# Altium footprint library DIODES PTH.PcbLib: 160 footprints (part 3 of 10)
Each footprint in its own frame and in the unit in brackets; x right, y up, seen from the top. Pads: shape width x height; smd on the part's side, far side on the other; paste and mask are expansions set on the pad; w line width, h text height; cw(c..) or ccw(c..) is an arc to the next point about the centre after c.
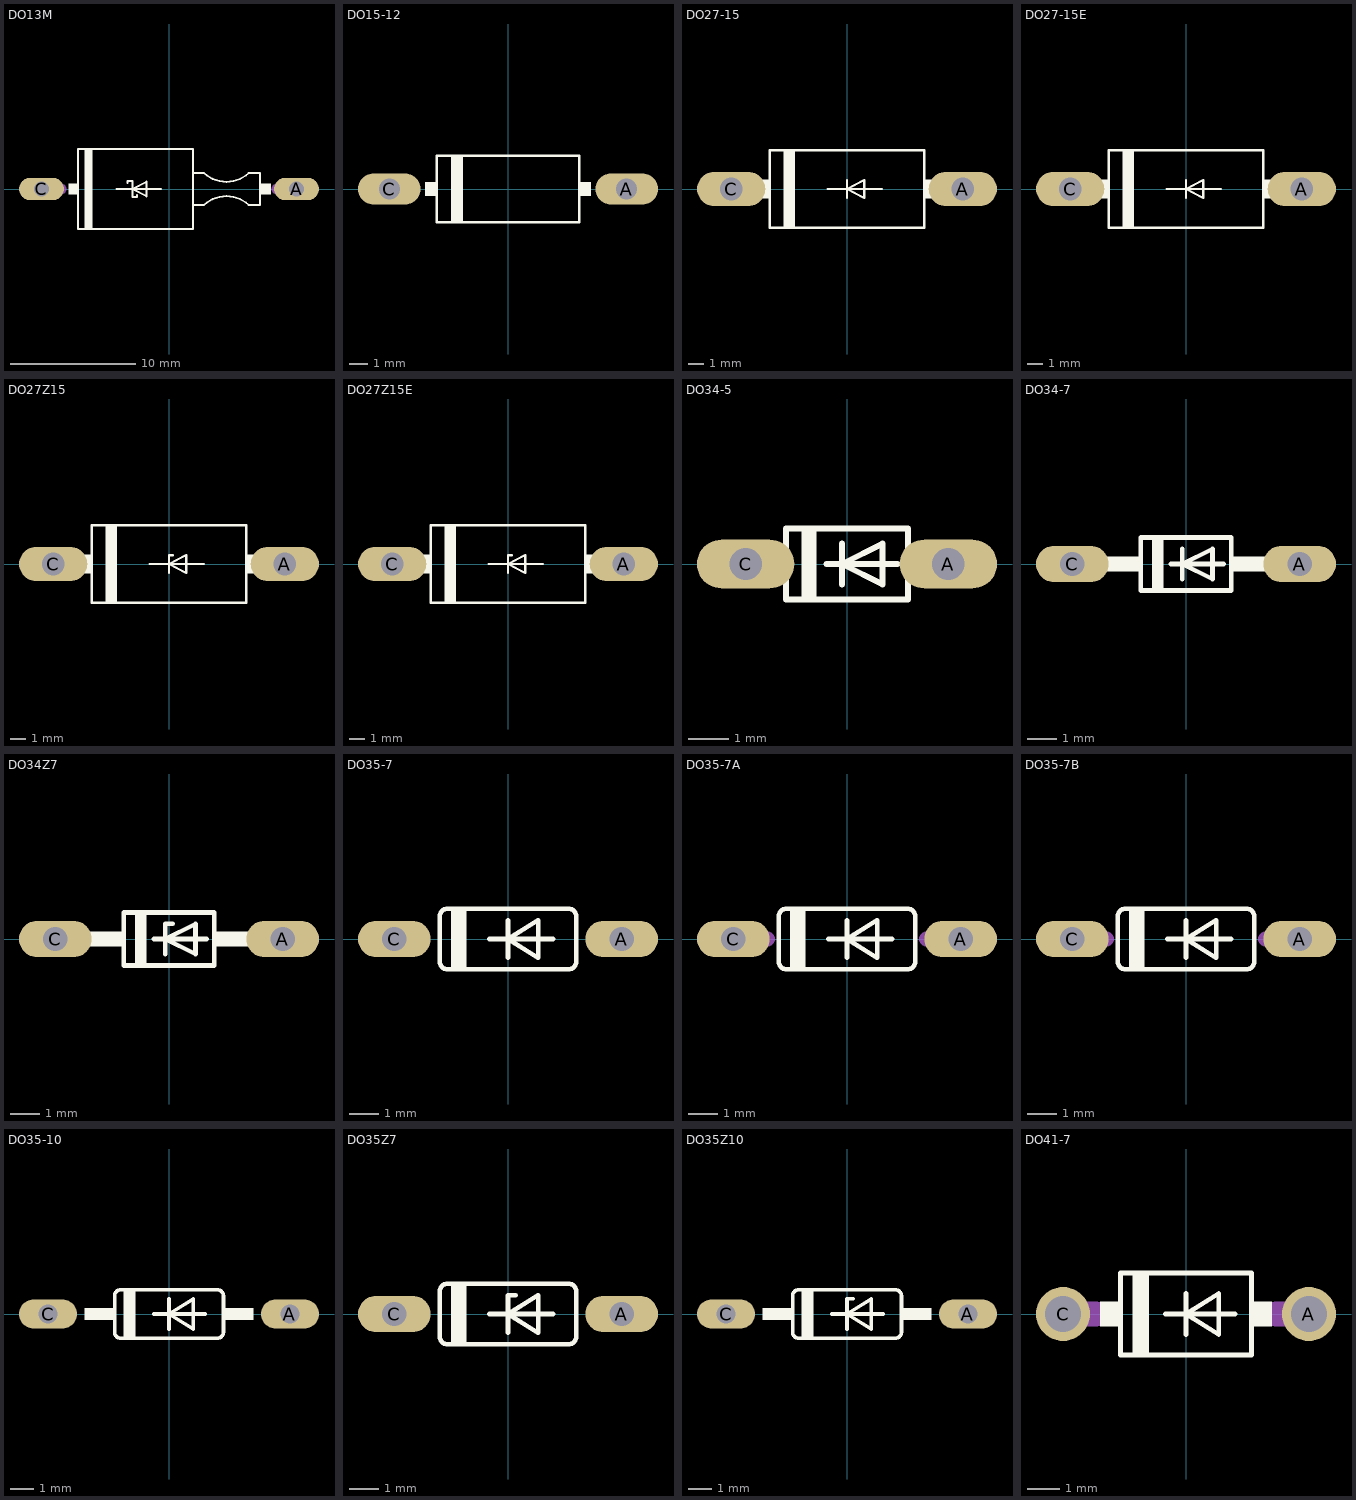
[diagram p2: the footprints below, top view; thin cyan lines are the x and y axes]

## DO13M [mil]
pads (2):
  oval 141x70.5 hole 47: A(400,0) C(-400,0)
Top Overlay:
  rectangle: 285,-17 320,17
  rectangle: -315,-17 -285,17
  rectangle: -265,-125 -240,125
  lines w6: -165,0 -115,0 ; -130,18 -130,25 -115,25 -115,0 ; -100,-18 -100,-25 -115,-25 -115,0 ; -25,0 -115,0 ; -115,0 -70,23 -70,-23 -115,0 ; 75,-50 75,-125 -285,-125 -285,125 75,125 75,50 ; 75,-50 75,50 ; 75,-50 110,-50 cw(c180,-125) 250,-50 285,-50 285,50 250,50 cw(c180,125) 110,50 75,50
Mechanical 16:
  lines w36: -400,0 -340,0 ; 340,0 400,0
3D body "User Library-DO-13 model.step": height 238.11, standoff -100.34, extent -414.07,-118.11 414.07,118.11

## DO15-12 [mil]
pads (2):
  oval 132x66 hole 44: A(250,0) C(-250,0)
Top Overlay:
  rectangle: -120,-70 -95,70
  rectangle: -175,-15 -150,15
  rectangle: 150,-15 175,15
  lines w6: -150,-70 150,-70 150,70 -150,70 -150,-70
Mechanical 16:
  lines w30: -250,0 -210,0 ; 210,0 250,0
3D body "User Library-DO-15 12_7mm.step": height 157.48, standoff -137.8, extent -266.93,-78.74 266.93,78.74

## DO27-15 [mil]
pads (2):
  oval 177x88.5 hole 59: A(300,0) C(-300,0)
Top Overlay:
  rectangle: -165,-100 -135,100
  rectangle: -235,-25 -200,25
  rectangle: 200,-25 235,25
  lines w6: -50,0 0,0 ; 0,-23 0,0 ; 0,23 0,0 ; 90,0 0,0 ; 0,0 45,23 45,-23 0,0 ; -200,-100 -200,100 200,100 200,-100 -200,-100
Mechanical 16:
  lines w50: -300,0 -245,0 ; 245,0 300,0

## DO27-15E [mil]
pads (2):
  oval 177x88.5 hole 59: A(300,0) C(-300,0)
Top Overlay:
  rectangle: -165,-100 -135,100
  rectangle: -220,-25 -200,25
  rectangle: 200,-25 220,25
  lines w6: -50,0 0,0 ; 0,-23 0,0 ; 0,23 0,0 ; 90,0 0,0 ; 0,0 45,23 45,-23 0,0 ; -200,-100 -200,100 200,100 200,-100 -200,-100
Mechanical 16:
  lines w50: -300,0 -230,0 ; 230,0 300,0

## DO27Z15 [mil]
pads (2):
  oval 177x88.5 hole 59: A(300,0) C(-300,0)
Top Overlay:
  rectangle: -165,-100 -135,100
  rectangle: -235,-25 -200,25
  rectangle: 200,-25 235,25
  lines w6: -50,0 0,0 ; 0,-23 0,0 ; 10,23 0,23 0,0 ; 90,0 0,0 ; 0,0 45,23 45,-23 0,0 ; -200,-100 -200,100 200,100 200,-100 -200,-100
Mechanical 16:
  lines w50: -300,0 -245,0 ; 245,0 300,0

## DO27Z15E [mil]
pads (2):
  oval 177x88.5 hole 59: A(300,0) C(-300,0)
Top Overlay:
  rectangle: -165,-100 -135,100
  rectangle: 200,-25 220,25
  rectangle: -220,-25 -200,25
  lines w6: -50,0 0,0 ; 0,-23 0,0 ; 10,23 0,23 0,0 ; 90,0 0,0 ; 0,0 45,23 45,-23 0,0 ; -200,-100 -200,100 200,100 200,-100 -200,-100
Mechanical 16:
  lines w50: -300,0 -230,0 ; 230,0 300,0

## DO34-5 [mil]
pads (2):
  oval 96x48 hole 32: A(100,0) C(-100,0)
Top Overlay:
  rectangle: 60,-10 65,10
  rectangle: -65,-10 -60,10
  rectangle: -45,-35 -30,35
  lines w6: -20,0 -5,0 ; -5,-20 -5,0 ; -5,20 -5,0 ; 50,0 -5,0 ; -5,0 35,20 35,-20 -5,0 ; -60,-35 -60,35 60,35 60,-35 -60,-35
Mechanical 16:
  lines w20: -100,0 -70,0 ; 70,0 100,0

## DO34-7 [mil]
pads (2):
  oval 96x48 hole 32: A(150,0) C(-150,0)
Top Overlay:
  rectangle: -115,-10 -60,10
  rectangle: 60,-10 115,10
  rectangle: -45,-35 -30,35
  lines w6: -20,0 -5,0 ; -5,-20 -5,0 ; -5,20 -5,0 ; 50,0 -5,0 ; -5,0 35,20 35,-20 -5,0 ; -60,-35 -60,35 60,35 60,-35 -60,-35
Mechanical 16:
  lines w20: -150,0 -115,0 ; 115,0 150,0

## DO34Z7 [mil]
pads (2):
  oval 96x48 hole 32: A(150,0) C(-150,0)
Top Overlay:
  rectangle: -45,-35 -30,35
  rectangle: 60,-10 115,10
  rectangle: -115,-10 -60,10
  lines w6: -20,0 -5,0 ; -5,-20 -5,0 ; 5,20 -5,20 -5,0 ; 50,0 -5,0 ; -5,0 35,-20 35,20 -5,0 ; -60,-35 60,-35 60,35 -60,35 -60,-35
Mechanical 16:
  lines w20: -150,0 -115,0 ; 115,0 150,0

## DO35-7 [mil]
pads (2):
  oval 96x48 hole 32: A(150,0) C(-150,0)
Top Overlay:
  rectangle: -75,-40 -55,40
  lines w6: -25,0 0,0 ; 0,-25 0,0 ; 0,25 0,0 ; 60,0 0,0 ; 0,0 40,-25 40,25 0,0 ; -90,-30 ccw(c-80,-30) -80,-40 80,-40 ccw(c80,-30) 90,-30 90,30 ccw(c80,30) 80,40 -80,40 ccw(c-80,30) -90,30 -90,-30
Mechanical 16:
  lines w20: -150,0 -115,0 ; 115,0 150,0
3D body "User Library-DO-35G-30.step": height 71.69, standoff -78.74, extent -160.83,-35.47 160.83,35.47

## DO35-7A [mil]
pads (2):
  oval 96x48 hole 32: A(150,0) C(-150,0)
Top Overlay:
  rectangle: -75,-40 -55,40
  lines w6: -25,0 0,0 ; 0,-25 0,0 ; 0,25 0,0 ; 60,0 0,0 ; 0,0 40,-25 40,25 0,0 ; -90,-30 ccw(c-80,-30) -80,-40 80,-40 ccw(c80,-30) 90,-30 90,30 ccw(c80,30) 80,40 -80,40 ccw(c-80,30) -90,30 -90,-30
Mechanical 16:
  lines w20: -150,0 -105,0 ; 105,0 150,0
3D body "User Library-DO-35G-30.step": height 71.69, standoff -78.74, extent -160.83,-35.47 160.83,35.47

## DO35-7B [mil]
pads (2):
  oval 96x48 hole 32: A(150,0) C(-150,0)
Top Overlay:
  rectangle: -75,-40 -55,40
  lines w6: -25,0 0,0 ; 0,-25 0,0 ; 0,25 0,0 ; 60,0 0,0 ; 0,0 40,25 40,-25 0,0 ; -90,-30 ccw(c-80,-30) -80,-40 80,-40 ccw(c80,-30) 90,-30 90,30 ccw(c80,30) 80,40 -80,40 ccw(c-80,30) -90,30 -90,-30
Mechanical 16:
  lines w20: -150,0 -105,0 ; 105,0 150,0
3D body "User Library-DO-35G-30.step": height 71.69, standoff -78.74, extent -160.83,-35.47 160.83,35.47

## DO35-10 [mil]
pads (2):
  oval 96x48 hole 32: A(200,0) C(-200,0)
Top Overlay:
  rectangle: -75,-40 -55,40
  rectangle: 90,-10 140,10
  rectangle: -140,-10 -90,10
  lines w6: -25,0 0,0 ; 0,-25 0,0 ; 0,25 0,0 ; 60,0 0,0 ; 0,0 40,-25 40,25 0,0 ; -90,-30 ccw(c-80,-30) -80,-40 80,-40 ccw(c80,-30) 90,-30 90,30 ccw(c80,30) 80,40 -80,40 ccw(c-80,30) -90,30 -90,-30
Mechanical 16:
  lines w20: -200,0 -165,0 ; 165,0 200,0
3D body "User Library-DO-35G-40B.step": height 71.69, standoff -78.74, extent -210.83,-35.47 210.83,35.47

## DO35Z7 [mil]
pads (2):
  oval 96x48 hole 32: A(150,0) C(-150,0)
Top Overlay:
  rectangle: -75,-40 -55,40
  lines w6: -25,0 0,0 ; 0,-25 0,0 ; 10,25 0,25 0,0 ; 60,0 0,0 ; 0,0 40,25 40,-25 0,0 ; -90,-30 ccw(c-80,-30) -80,-40 80,-40 ccw(c80,-30) 90,-30 90,30 ccw(c80,30) 80,40 -80,40 ccw(c-80,30) -90,30 -90,-30
Mechanical 16:
  lines w20: -150,0 -115,0 ; 115,0 150,0
3D body "User Library-DO-35G-30.step": height 71.69, standoff -78.74, extent -160.83,-35.47 160.83,35.47

## DO35Z10 [mil]
pads (2):
  oval 96x48 hole 32: A(200,0) C(-200,0)
Top Overlay:
  rectangle: -140,-10 -90,10
  rectangle: 90,-10 140,10
  rectangle: -75,-40 -55,40
  lines w6: -25,0 0,0 ; 0,-25 0,0 ; 10,25 0,25 0,0 ; 60,0 0,0 ; 0,0 40,25 40,-25 0,0 ; -90,-30 ccw(c-80,-30) -80,-40 80,-40 ccw(c80,-30) 90,-30 90,30 ccw(c80,30) 80,40 -80,40 ccw(c-80,30) -90,30 -90,-30
Mechanical 16:
  lines w20: -200,0 -165,0 ; 165,0 200,0
3D body "User Library-DO-35G-40B.step": height 71.69, standoff -78.74, extent -210.83,-35.47 210.83,35.47

## DO41-7 [mil]
pads (2):
  round 66 hole 44: A(150,0) C(-150,0)
Top Overlay:
  rectangle: -105,-15 -80,15
  rectangle: 80,-15 105,15
  rectangle: -65,-50 -45,50
  lines w6: -25,0 0,0 ; 0,-25 0,0 ; 0,25 0,0 ; 60,0 0,0 ; 0,0 40,25 40,-25 0,0 ; -80,-50 -80,50 80,50 80,-50 -80,-50
Mechanical 16:
  lines w30: -150,0 -110,0 ; 110,0 150,0
3D body "User Library-DO-41-30.step": height 99.61, standoff -78.74, extent -163.78,-47.28 163.78,47.28